# Altium footprint library TSSOP封装.PcbLib: 26 footprints (part 2 of 2)
Each footprint in its own frame and in the unit in brackets; x right, y up, seen from the top. Pads: shape width x height; smd on the part's side, far side on the other; paste and mask are expansions set on the pad; w line width, h text height; cw(c..) or ccw(c..) is an arc to the next point about the centre after c.
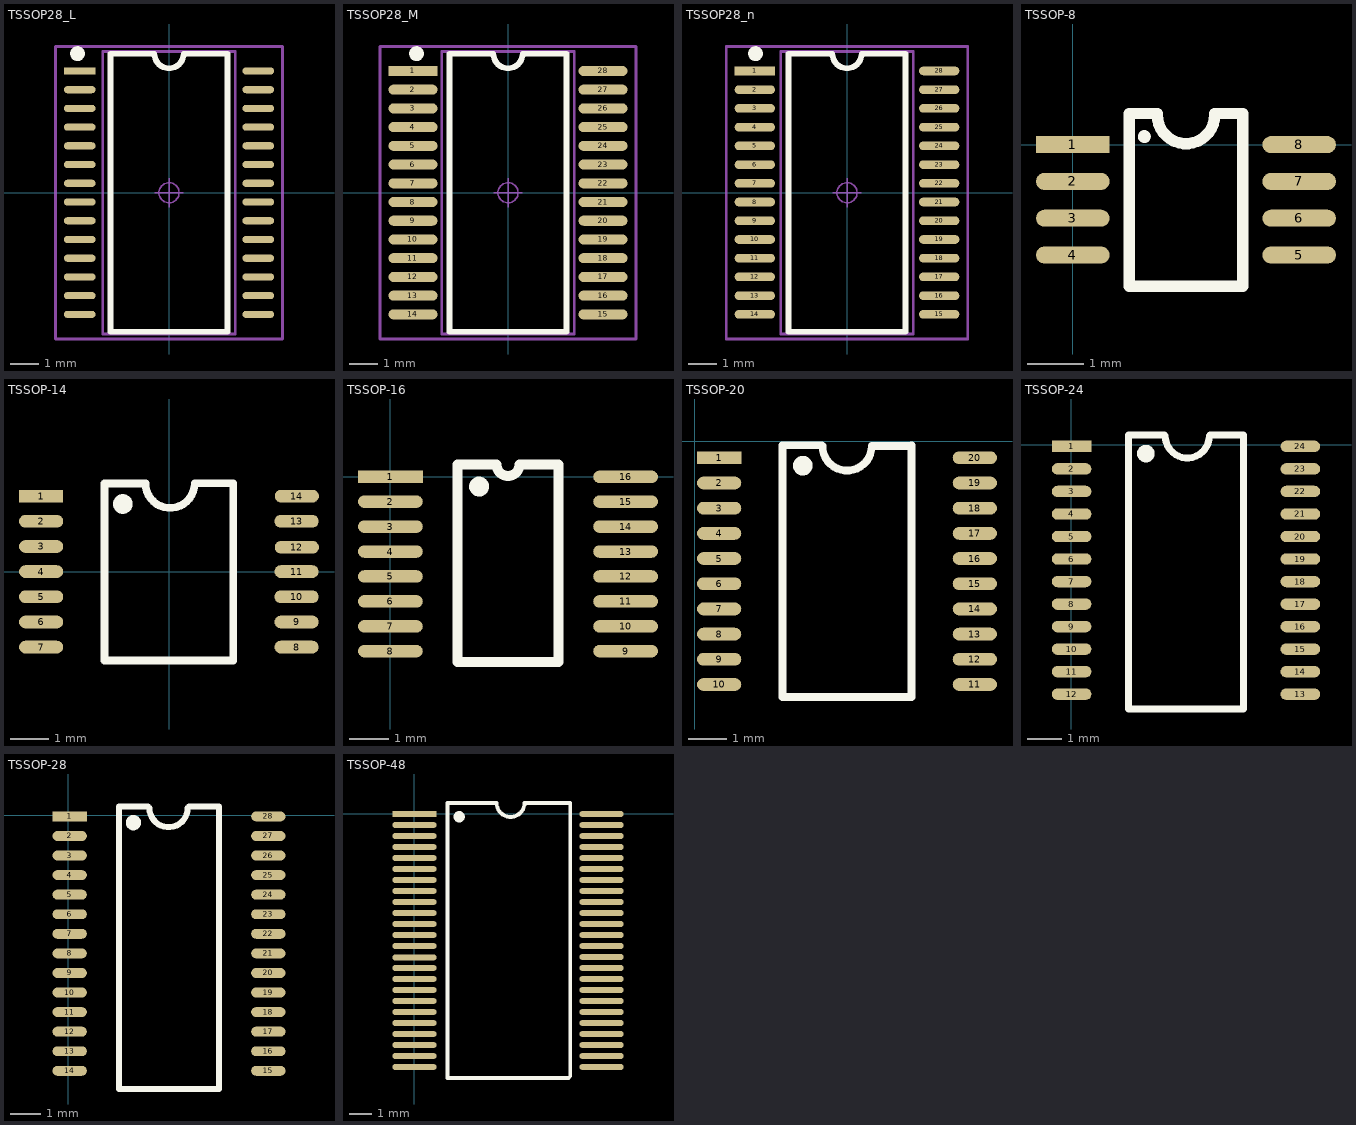
[diagram p1: the footprints below, top view; thin cyan lines are the x and y axes]

## TSSOP28_L [mm] "9.8*6.4*1mm（长宽高）  封装库来自公众号：智芯Player"
pads (28):
  rect 1.1x0.25 smd: 1(-3.1,4.225)
  oval 1.1x0.25 smd: 2(-3.1,3.575) 3(-3.1,2.925) 4(-3.1,2.275) 5(-3.1,1.625) 6(-3.1,0.975) 7(-3.1,0.325) 8(-3.1,-0.325) 9(-3.1,-0.975) 10(-3.1,-1.625) 11(-3.1,-2.275) 12(-3.1,-2.925) 13(-3.1,-3.575) 14(-3.1,-4.225) 15(3.1,-4.225) 16(3.1,-3.575) 17(3.1,-2.925) 18(3.1,-2.275) 19(3.1,-1.625) 20(3.1,-0.975) 21(3.1,-0.325) 22(3.1,0.325) 23(3.1,0.975) 24(3.1,1.625) 25(3.1,2.275) 26(3.1,2.925) 27(3.1,3.575) 28(3.1,4.225)
Top Overlay:
  circle w0.254: c-3.175,4.826 r0.13
  lines w0.2: -2.032,-4.826 -2.032,4.826 -0.508,4.826 ccw(c0,4.826) 0.508,4.826 2.032,4.826 2.032,-4.826 -2.032,-4.826
Mechanical 13:
  lines w0.1: -2.3,-4.9 2.3,-4.9 2.3,4.9 -2.3,4.9 -2.3,-4.9
Mechanical 15:
  circle w0.05: c0,0 r0.35
  lines w0.05: -0.5,0 0.5,0 ; 0,-0.5 0,0.5
  lines w0.1: -3.937,-5.08 3.937,-5.08 3.937,5.08 -3.937,5.08 -3.937,-5.08
3D body "TSSOP28.STEP": height 1.03, standoff -0.02, extent -3.202,-4.9 3.202,4.9

## TSSOP28_M [mm] "9.8*6.4*1mm（长宽高） 封装库来自公众号：智芯Player"
pads (28):
  rect 1.7x0.35 smd: 1(-3.3,4.225)
  oval 1.7x0.35 smd: 2(-3.3,3.575) 3(-3.3,2.925) 4(-3.3,2.275) 5(-3.3,1.625) 6(-3.3,0.975) 7(-3.3,0.325) 8(-3.3,-0.325) 9(-3.3,-0.975) 10(-3.3,-1.625) 11(-3.3,-2.275) 12(-3.3,-2.925) 13(-3.3,-3.575) 14(-3.3,-4.225) 15(3.3,-4.225) 16(3.3,-3.575) 17(3.3,-2.925) 18(3.3,-2.275) 19(3.3,-1.625) 20(3.3,-0.975) 21(3.3,-0.325) 22(3.3,0.325) 23(3.3,0.975) 24(3.3,1.625) 25(3.3,2.275) 26(3.3,2.925) 27(3.3,3.575) 28(3.3,4.225)
Top Overlay:
  circle w0.254: c-3.175,4.826 r0.13
  lines w0.2: -2.032,-4.826 -2.032,4.826 -0.508,4.826 ccw(c0,4.826) 0.508,4.826 2.032,4.826 2.032,-4.826 -2.032,-4.826
Mechanical 13:
  lines w0.1: -2.3,-4.9 2.3,-4.9 2.3,4.9 -2.3,4.9 -2.3,-4.9
Mechanical 15:
  circle w0.05: c0,0 r0.35
  lines w0.05: -0.5,0 0.5,0 ; 0,-0.5 0,0.5
  lines w0.1: -4.445,-5.08 -4.445,5.08 4.445,5.08 4.445,-5.08 -4.445,-5.08
3D body "TSSOP28.STEP": height 1.03, standoff -0.02, extent -3.202,-4.9 3.202,4.9

## TSSOP28_n [mm] "9.8*6.4*1mm（长宽高）   封装库来自公众号：智芯Player"
pads (28):
  rect 1.4x0.3 smd: 1(-3.2,4.225)
  oval 1.4x0.3 smd: 2(-3.2,3.575) 3(-3.2,2.925) 4(-3.2,2.275) 5(-3.2,1.625) 6(-3.2,0.975) 7(-3.2,0.325) 8(-3.2,-0.325) 9(-3.2,-0.975) 10(-3.2,-1.625) 11(-3.2,-2.275) 12(-3.2,-2.925) 13(-3.2,-3.575) 14(-3.2,-4.225) 15(3.2,-4.225) 16(3.2,-3.575) 17(3.2,-2.925) 18(3.2,-2.275) 19(3.2,-1.625) 20(3.2,-0.975) 21(3.2,-0.325) 22(3.2,0.325) 23(3.2,0.975) 24(3.2,1.625) 25(3.2,2.275) 26(3.2,2.925) 27(3.2,3.575) 28(3.2,4.225)
Top Overlay:
  circle w0.254: c-3.175,4.826 r0.13
  lines w0.2: -2.032,-4.826 -2.032,4.826 -0.508,4.826 ccw(c0,4.826) 0.508,4.826 2.032,4.826 2.032,-4.826 -2.032,-4.826
Mechanical 13:
  lines w0.1: -2.3,-4.9 2.3,-4.9 2.3,4.9 -2.3,4.9 -2.3,-4.9
Mechanical 15:
  circle w0.05: c0,0 r0.35
  lines w0.05: -0.5,0 0.5,0 ; 0,-0.5 0,0.5
  lines w0.1: -4.191,-5.08 4.191,-5.08 4.191,5.08 -4.191,5.08 -4.191,-5.08
3D body "TSSOP28.STEP": height 1.03, standoff -0.02, extent -3.202,-4.9 3.202,4.9

## TSSOP-8 [mm] "3.00×4.00×1.00 e=0.65mm 封装库来自公众号：智芯Player"
pads (8):
  rect 1.3x0.3 smd: 1(0,0)
  oval 1.3x0.3 smd: 2(0,-0.65) 3(0,-1.3) 4(0,-1.95) 5(4,-1.95) 6(4,-1.3) 7(4,-0.65) 8(4,0)
Top Overlay:
  circle w0.127: c1.263,0.143 r0.051
  lines w0.2: 1.492,0.525 ccw(c2,0.525) 2.508,0.525 ; 1.492,0.549 1,0.549 1,-2.499 3,-2.499 3,0.549 2.508,0.549
3D body "TSSOP8.STEP": height 1.03, standoff -0.02, extent -0.052,-2.475 4.052,0.525

## TSSOP-14 [mm] "4.96x4.40x1.00 e=0.65 封装库来自公众号：智芯Player"
pads (14):
  rect 1.143x0.33 smd: 1(-3.304,1.95)
  oval 1.143x0.33 smd: 2(-3.304,1.3) 3(-3.304,0.65) 4(-3.304,0) 5(-3.304,-0.65) 6(-3.304,-1.3) 7(-3.304,-1.95) 8(3.296,-1.95) 9(3.296,-1.3) 10(3.296,-0.65) 11(3.296,0) 12(3.304,0.629) 13(3.296,1.3) 14(3.304,1.95)
Top Overlay:
  circle w0.254: c-1.192,1.747 r0.127
  lines w0.2: -0.617,2.275 -1.669,2.275 -1.669,-2.299 1.661,-2.299 1.661,2.275 ; -0.608,2.28 ccw(c0.027,2.28) 0.662,2.28 1.656,2.28
3D body "TSSOP14.STEP": height 1.03, standoff -0.02, extent -3.276,-2.48 3.128,2.52

## TSSOP-16 [mil] "4.96x4.40x1.00 e=0.65  封装库来自公众号：智芯Player"
pads (16):
  rect 65x12.5 smd: 1(0,0)
  oval 65x12.5 smd: 2(0,-25) 3(0,-50) 4(0,-75) 5(0,-100) 6(0,-125) 7(0,-150) 8(0,-175) 9(236,-175) 10(236,-150) 11(236,-125) 12(236,-100) 13(236,-75) 14(236,-50) 15(236,-25) 16(236,0)
Top Overlay:
  lines w10: 89,-14.79 cw(c89,-9.79) 89.71,-14.74 ; 67.5,-186 67.5,12.5 106.46,12.5 ccw(c118,12.5) 129.54,12.5 168.5,12.5 168.5,-186 67.5,-186
3D body "TSSOP16.STEP": height 40.55, standoff -0.76, extent -6.06,-187.42 246.08,9.43

## TSSOP-20 [mm] "6.50x4.40x1.00 e=0.65  封装库来自公众号：智芯Player"
pads (20):
  rect 1.143x0.33 smd: 1(0.635,-0.432)
  oval 1.143x0.33 smd: 2(0.635,-1.082) 3(0.635,-1.732) 4(0.635,-2.382) 5(0.635,-3.032) 6(0.635,-3.682) 7(0.635,-4.332) 8(0.635,-4.982) 9(0.635,-5.632) 10(0.635,-6.282) 11(7.235,-6.282) 12(7.235,-5.632) 13(7.235,-4.982) 14(7.235,-4.332) 15(7.235,-3.682) 16(7.235,-3.032) 17(7.235,-2.382) 18(7.235,-1.732) 19(7.235,-1.082) 20(7.235,-0.432)
Top Overlay:
  circle w0.254: c2.794,-0.635 r0.127
  lines w0.2: 3.282,-0.107 2.27,-0.107 2.27,-6.607 5.6,-6.607 5.6,-0.107 ; 3.302,-0.127 ccw(c3.937,-0.127) 4.572,-0.127 5.58,-0.127
3D body "TSSOP20.STEP": height 1.03, standoff -0.02, extent 0.735,-6.552 7.139,-0.052

## TSSOP-24 [mm] "7.80x4.40x1.00 e=0.65 封装库来自公众号：智芯Player"
pads (24):
  rect 1.143x0.33 smd: 1(0.016,-0.046)
  oval 1.143x0.33 smd: 2(0.016,-0.696) 3(0.016,-1.346) 4(0.016,-1.996) 5(0.016,-2.646) 6(0.016,-3.296) 7(0.016,-3.946) 8(0.016,-4.596) 9(0.016,-5.246) 10(0.016,-5.896) 11(0.016,-6.546) 12(0.016,-7.196) 13(6.616,-7.196) 14(6.616,-6.546) 15(6.616,-5.896) 16(6.616,-5.246) 17(6.616,-4.596) 18(6.616,-3.946) 19(6.616,-3.296) 20(6.616,-2.646) 21(6.616,-1.996) 22(6.616,-1.346) 23(6.616,-0.696) 24(6.616,-0.046)
Top Overlay:
  circle w0.254: c2.159,-0.254 r0.127
  lines w0.2: 2.692,0.279 1.651,0.279 1.651,-7.62 4.981,-7.62 4.981,0.279 4.013,0.279 ; 2.718,0.254 ccw(c3.353,0.254) 3.988,0.254
3D body "TSSOP24.STEP": height 1.03, standoff -0.02, extent 0.1,-7.456 6.504,0.344

## TSSOP-28 [mm] "9.70x4.40x1.00 e=0.65  封装库来自淘宝卖家 ID：黄晶宝石"
pads (28):
  rect 1.143x0.33 smd: 1(0.041,-0.046)
  oval 1.143x0.33 smd: 2(0.041,-0.696) 3(0.041,-1.346) 4(0.041,-1.996) 5(0.041,-2.646) 6(0.041,-3.296) 7(0.041,-3.946) 8(0.041,-4.596) 9(0.041,-5.246) 10(0.041,-5.896) 11(0.041,-6.546) 12(0.041,-7.196) 13(0.041,-7.846) 14(0.041,-8.496) 15(6.641,-8.496) 16(6.641,-7.846) 17(6.641,-7.196) 18(6.641,-6.546) 19(6.641,-5.896) 20(6.641,-5.246) 21(6.641,-4.596) 22(6.641,-3.946) 23(6.641,-3.296) 24(6.641,-2.646) 25(6.641,-1.996) 26(6.641,-1.346) 27(6.641,-0.696) 28(6.641,-0.046)
Top Overlay:
  circle w0.254: c2.159,-0.254 r0.127
  lines w0.2: 2.642,0.279 1.676,0.279 1.676,-9.1 5.006,-9.1 5.006,0.279 4.013,0.279 ; 2.692,0.229 ccw(c3.327,0.229) 3.962,0.229
3D body "TSSOP28.STEP": height 1.03, standoff -0.02, extent 0.049,-9.142 6.453,0.658

## TSSOP-48 [mm] "12.50×6.10×0.95 e=0.50 封装库来自淘宝卖家 ID：黄晶宝石"
pads (48):
  rect 2x0.279 smd: 1(0,0)
  oval 2x0.279 smd: 2(0,-0.5) 3(0,-1) 4(0,-1.5) 5(0,-2) 6(0,-2.5) 7(0,-3) 8(0,-3.5) 9(0,-4) 10(0,-4.5) 11(0,-5) 12(0,-5.5) 13(0,-6) 14(0,-6.52) 15(0,-7) 16(0,-7.5) 17(0,-8) 18(0,-8.5) 19(0,-9) 20(0,-9.5) 21(0,-10) 22(0,-10.5) 23(0,-11) 24(0,-11.5) 25(8.5,-11.5) 26(8.5,-11) 27(8.5,-10.5) 28(8.5,-10) 29(8.5,-9.5) 30(8.5,-9) 31(8.5,-8.5) 32(8.5,-8) 33(8.5,-7.5) 34(8.5,-7) 35(8.5,-6.5) 36(8.5,-6) 37(8.5,-5.5) 38(8.5,-5) 39(8.5,-4.5) 40(8.5,-4) 41(8.5,-3.5) 42(8.5,-3) 43(8.5,-2.5) 44(8.5,-2) 45(8.5,-1.5) 46(8.5,-1) 47(8.5,-0.5) 48(8.5,0)
Top Overlay:
  circle w0.254: c2.032,-0.127 r0.127
  lines w0.178: 7,-12 7.081,-11.919 ; 7,-12 1.5,-12 1.5,0.5 3.73,0.5 ccw(c4.365,0.5) 5,0.5 7.081,0.5 7.081,-11.919 ; 7,-12 7.081,-11.919
3D body "TSSOP48.STEP": height 1.1, standoff 0.02, extent 0.091,-11.965 8.291,0.535